# EAGLE library part FLASH-EDGE8-MALE-NEW (library _openSX70)
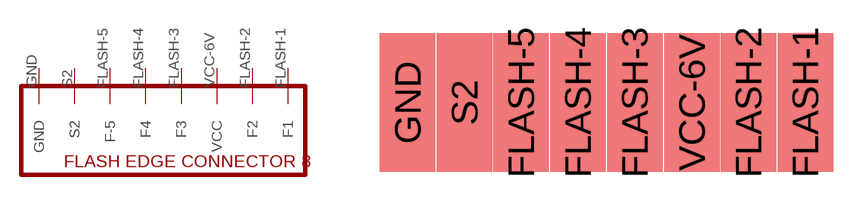
[diagram p10: symbol with the pads of FLASH-EDGE8-NEW; footprint FLASH-EDGE8-NEW]

Designator prefix -

## FLASH-EDGE8-MALE-NEW  [FLASH-EDGE8-NEW]
FLASH-1  F1
FLASH-2  F2
FLASH-3  F3
FLASH-4  F4
FLASH-5  F-5
GND  GND
S2  S2
VCC-6V  VCC

## Footprint FLASH-EDGE8-NEW (pad centres in mm)
smd 2.5 x 6.25: FLASH-1 9.03,-0.599; FLASH-2 6.47,-0.599; FLASH-3 1.35,-0.599; FLASH-4 -1.21,-0.599; FLASH-5 -3.77,-0.599; GND -8.89,-0.599; S2 -6.33,-0.599; VCC-6V 3.91,-0.599